# EAGLE library part IC-WK (library SmartMDC)
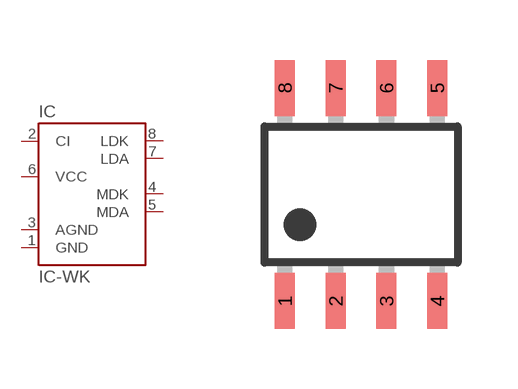
[diagram p13: symbol with the pads of SOIC-8; footprint SOIC-8]

Designator prefix IC

## IC-WK  [SOIC-8]
1  GND
2  CI
3  AGND
4  MDK
5  MDA
6  VCC
7  LDA
8  LDK

## Footprint SOIC-8 (pad centres in mm)
SOIC-8 150 mil Package
smd 0.5 x 1.4: 1 -1.905,-2.667; 2 -0.635,-2.667; 3 0.635,-2.667; 4 1.905,-2.667; 5 1.905,2.667; 6 0.635,2.667; 7 -0.635,2.667; 8 -1.905,2.667